# EAGLE library part STM8S20_S_T_C (library X893)
STM8S207S http://www.st.com/stonline/products/literature/ds/14733.pdf
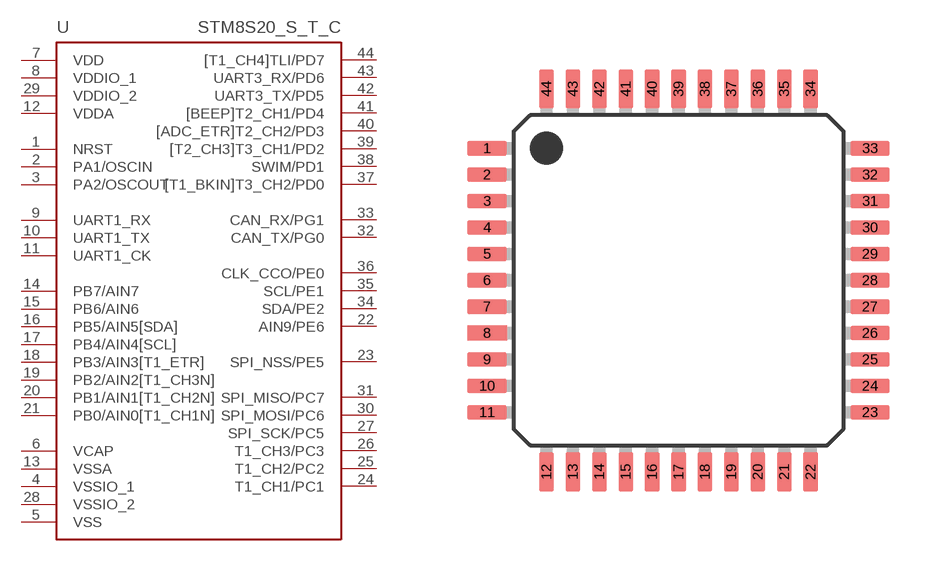
[diagram p87: symbol with the pads of LQFP44; footprint LQFP44]

Designator prefix U

## STM8S20_S_T_C  [LQFP44]
1  NRST
2  PA1/OSCIN
3  PA2/OSCOUT
4  VSSIO_1
5  VSS
6  VCAP
7  VDD
8  VDDIO_1
9  UART1_RX
10  UART1_TX
11  UART1_CK
12  VDDA
13  VSSA
14  PB7/AIN7
15  PB6/AIN6
16  PB5/AIN5[SDA]
17  PB4/AIN4[SCL]
18  PB3/AIN3[T1_ETR]
19  PB2/AIN2[T1_CH3N]
20  PB1/AIN1[T1_CH2N]
21  PB0/AIN0[T1_CH1N]
22  AIN9/PE6
23  SPI_NSS/PE5
24  T1_CH1/PC1
25  T1_CH2/PC2
26  T1_CH3/PC3
27  SPI_SCK/PC5
28  VSSIO_2
29  VDDIO_2
30  SPI_MOSI/PC6
31  SPI_MISO/PC7
32  CAN_TX/PG0
33  CAN_RX/PG1
34  SDA/PE2
35  SCL/PE1
36  CLK_CCO/PE0
37  [T1_BKIN]T3_CH2/PD0
38  SWIM/PD1
39  [T2_CH3]T3_CH1/PD2
40  [ADC_ETR]T2_CH2/PD3
41  [BEEP]T2_CH1/PD4
42  UART3_TX/PD5
43  UART3_RX/PD6
44  [T1_CH4]TLI/PD7

## Footprint LQFP44 (pad centres in mm)
smd 1.2 x 0.45: 1 -5.8,4; 2 -5.8,3.2; 3 -5.8,2.4; 4 -5.8,1.6; 5 -5.8,0.8; 6 -5.8,0; 7 -5.8,-0.8; 8 -5.8,-1.6; 9 -5.8,-2.4; 10 -5.8,-3.2; 11 -5.8,-4; 23 5.8,-4; 24 5.8,-3.2; 25 5.8,-2.4; 26 5.8,-1.6; 27 5.8,-0.8; 28 5.8,0; 29 5.8,0.8; 30 5.8,1.6; 31 5.8,2.4; 32 5.8,3.2; 33 5.8,4
smd 0.45 x 1.2: 12 -4,-5.8; 13 -3.2,-5.8; 14 -2.4,-5.8; 15 -1.6,-5.8; 16 -0.8,-5.8; 17 0,-5.8; 18 0.8,-5.8; 19 1.6,-5.8; 20 2.4,-5.8; 21 3.2,-5.8; 22 4,-5.8; 34 4,5.8; 35 3.2,5.8; 36 2.4,5.8; 37 1.6,5.8; 38 0.8,5.8; 39 0,5.8; 40 -0.8,5.8; 41 -1.6,5.8; 42 -2.4,5.8; 43 -3.2,5.8; 44 -4,5.8